# Altium footprint library passives.PCBLIB: 93 footprints (part 2 of 6)
Each footprint in its own frame and in the unit in brackets; x right, y up, seen from the top. Pads: shape width x height; smd on the part's side, far side on the other; paste and mask are expansions set on the pad; w line width, h text height; cw(c..) or ccw(c..) is an arc to the next point about the centre after c.
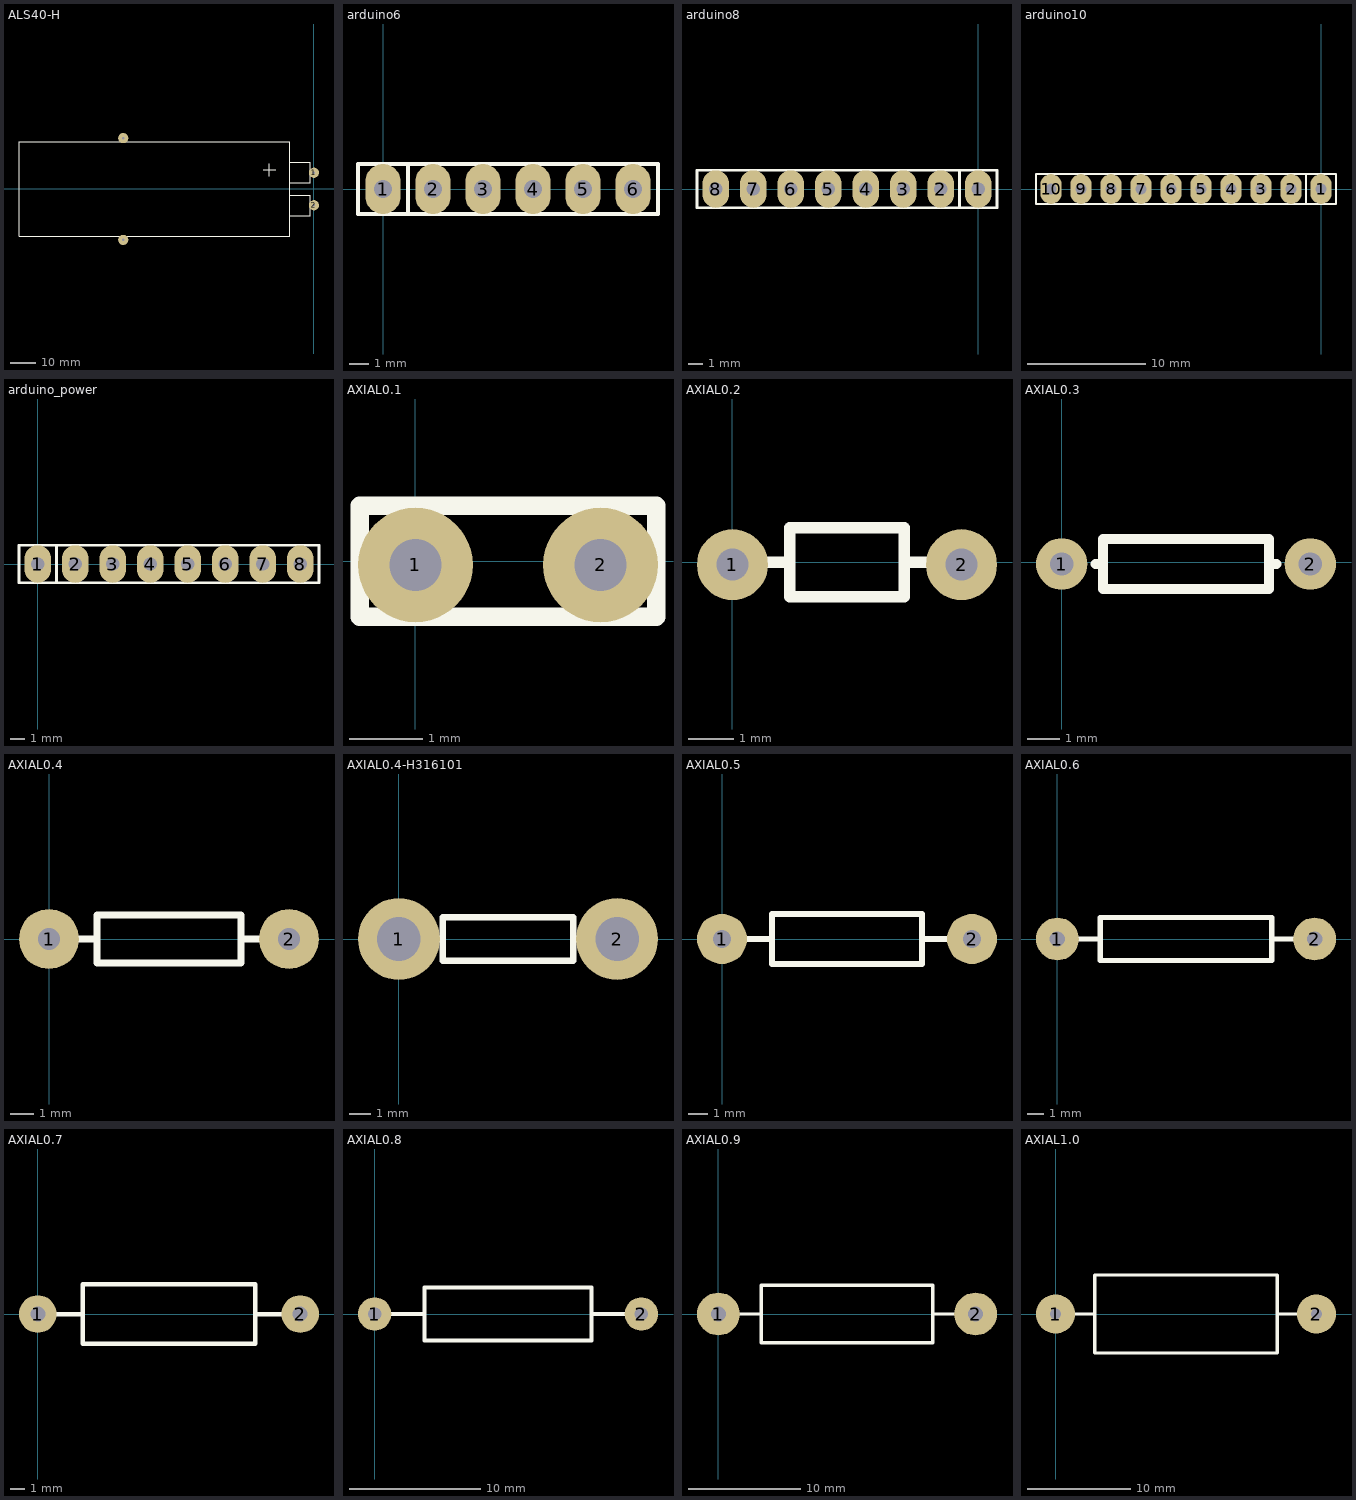
[diagram p1: the footprints below, top view; thin cyan lines are the x and y axes]

## ALS40-H [mm]
pads (4):
  round 4 hole 1: 1(0,6.4) 2(0,-6.4) ""(-75,-20) ""(-75,20)
Top Overlay:
  lines w0.2: -20,7.5 -15,7.5 ; -17.5,5 -17.5,10 ; -9.5,-10.5 -9.5,-18.5 -12.5,-18.5 -116,-18.5 -116,18.5 -11.5,18.5 -9.5,18.5 -9.5,10.5 ; -9.5,-10.5 -9.5,-2.5 ; -9.5,-10.5 -1.5,-10.5 -1.5,-2.5 -9.5,-2.5 ; -9.5,-2.5 -9.5,2.5 ; -9.5,2.5 -1.5,2.5 -1.5,10.5 -9.5,10.5 ; -9.5,2.5 -9.5,10.5

## arduino6 [mm]
pads (6):
  oval 1.8x2.54 hole 0.9: 1(0,0) 2(2.54,0) 3(5.08,0) 4(7.62,0) 5(10.16,0) 6(12.7,0)
Top Overlay:
  lines w0.2: 1.27,-1.27 1.27,1.27 ; -1.27,-1.27 13.97,-1.27 13.97,1.27 -1.27,1.27 -1.27,-1.27

## arduino8 [mm]
pads (8):
  oval 1.8x2.54 hole 0.9: 1(0,0) 2(-2.54,0) 3(-5.08,0) 4(-7.62,0) 5(-10.16,0) 6(-12.7,0) 7(-15.24,0) 8(-17.78,0)
Top Overlay:
  lines w0.2: -1.27,-1.27 -1.27,1.27 ; -19.05,-1.27 -19.05,1.27 1.27,1.27 1.27,-1.27 -19.05,-1.27

## arduino10 [mm]
pads (10):
  oval 1.8x2.54 hole 0.9: 1(0,0) 2(-2.54,0) 3(-5.08,0) 4(-7.62,0) 5(-10.16,0) 6(-12.7,0) 7(-15.24,0) 8(-17.78,0) 9(-20.32,0) 10(-22.86,0)
Top Overlay:
  lines w0.2: -1.27,-1.27 -1.27,1.27 ; -24.13,-1.27 1.27,-1.27 1.27,1.27 -24.13,1.27 -24.13,-1.27

## arduino_power [mm]
pads (8):
  oval 1.8x2.54 hole 0.9: 1(0,0) 2(2.54,0) 3(5.08,0) 4(7.62,0) 5(10.16,0) 6(12.7,0) 7(15.24,0) 8(17.78,0)
Top Overlay:
  lines w0.2: 1.27,-1.27 1.27,1.27 ; -1.27,-1.27 19.05,-1.27 19.05,1.27 -1.27,1.27 -1.27,-1.27

## AXIAL0.1 [mil]
pads (2):
  round 62 hole 28: 1(0,-2) 2(100,-2)
Top Overlay:
  lines w10: -30,-30 -30,30 130,30 130,-30 -30,-30

## AXIAL0.2 [mil]
pads (2):
  round 62 hole 28: 1(0,-2) 2(200,-2)
Top Overlay:
  lines w10: 30,0 50,0 ; 150,0 170,0 ; 50,-30 50,30 150,30 150,-30 50,-30

## AXIAL0.3 [mil]
pads (2):
  round 62 hole 28: 1(0,-2) 2(300,-2)
Top Overlay:
  lines w12: 41,-2 50,-2 ; 259,-2 250,-2 ; 250,-2 250,-32 50,-32 50,28 250,28 250,-2

## AXIAL0.4 [mil]
pads (2):
  round 100 hole 36: 1(0,0) 2(400,0)
Top Overlay:
  lines w12: 40,0 80,0 ; 320,0 360,0 ; 80,-40 320,-40 320,40 80,40 80,-40

## AXIAL0.4-H316101 [mil]
pads (2):
  round 150 hole 80: 1(0,0) 2(400,0)
Top Overlay:
  lines w12: 40,0 80,0 ; 320,0 360,0 ; 80,-40 80,40 320,40 320,-40 80,-40

## AXIAL0.5 [mil]
pads (2):
  round 100 hole 36: 1(0,0) 2(500,0)
Top Overlay:
  lines w12: 40,0 100,0 ; 400,0 460,0 ; 100,-50 100,50 400,50 400,-50 100,-50

## AXIAL0.6 [mil]
pads (2):
  round 100 hole 36: 1(0,0) 2(600,0)
Top Overlay:
  lines w12: 40,0 100,0 ; 500,0 560,0 ; 100,-50 100,50 500,50 500,-50 100,-50

## AXIAL0.7 [mil]
pads (2):
  round 100 hole 40: 1(0,0) 2(700,0)
Top Overlay:
  lines w12: 50,0 120,0 ; 580,0 650,0 ; 120,-80 580,-80 580,80 120,80 120,-80

## AXIAL0.8 [mil]
pads (2):
  round 100 hole 40: 1(0,0) 2(800,0)
Top Overlay:
  lines w12: 50,0 150,0 ; 650,0 750,0 ; 150,-80 650,-80 650,80 150,80 150,-80

## AXIAL0.9 [mil]
pads (2):
  round 150 hole 52: 1(0,0) 2(900,0)
Top Overlay:
  lines w12: 75,0 150,0 ; 750,0 825,0 ; 150,-100 750,-100 750,100 150,100 150,-100

## AXIAL1.0 [mil]
pads (2):
  round 150 hole 42: 1(0,0) 2(1000,0)
Top Overlay:
  lines w12: 75,0 150,0 ; 850,0 925,0 ; 150,-150 850,-150 850,150 150,150 150,-150